# EAGLE library part TDA8947J (library Audio-Power-amlifier V.2.0)
The TDA8947J contains four identical audio power amplifiers. The TDA8947J can be used as: four Single-Ended (SE: 1 W to 25 W; BTL: 4 W to 50 W)) channels with a fixed gain of 26 dB, two times Bridge-Tied Load (BTL) channels with a fixed gain of 32 dB or two times SE channels (26 dB gain) plus one BTL channel (32 dB gain) operating as a 2.1 system.
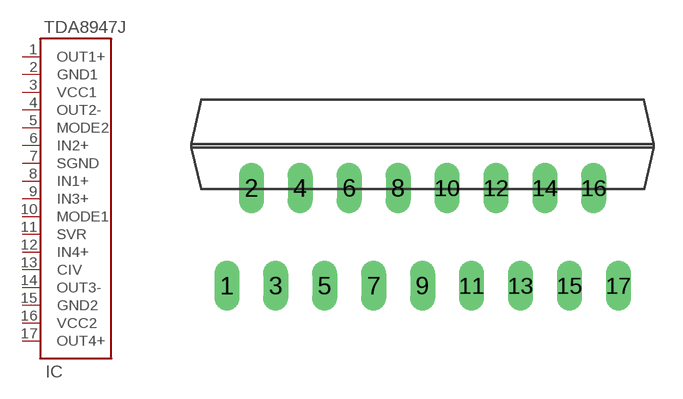
[diagram p167: symbol with the pads of SOT243-1; footprint SOT243-1]

Designator prefix IC

## TDA8947J  [SOT243-1]
1  OUT1+  out
2  GND1  pwr
3  VCC1  pwr
4  OUT2-  out
5  MODE2  in
6  IN2+  in
7  SGND  pwr
8  IN1+  in
9  IN3+  in
10  MODE1  in
11  SVR
12  IN4+  in
13  CIV  in
14  OUT3-  out
15  GND2  out
16  VCC2  pwr
17  OUT4+  out

## Footprint SOT243-1 (pad centres in mm)
DBS17P: plastic DIL-bent-SIL power package; 17 leads (lead length 7.7 mm)
drill 0.8 long: 1 -10.16,-5.08; 2 -8.89,0; 3 -7.62,-5.08; 4 -6.35,0; 5 -5.08,-5.08; 6 -3.81,0; 7 -2.54,-5.08; 8 -1.27,0; 9 0,-5.08; 10 1.27,0; 11 2.54,-5.08; 12 3.81,0; 13 5.08,-5.08; 14 6.35,0; 15 7.62,-5.08; 16 8.89,0; 17 10.17,-5.08